# EAGLE library part TPIC1021 (library EVT-Eagle-Library)
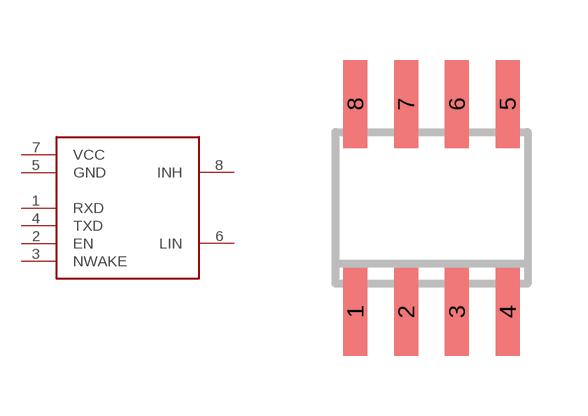
[diagram p5: symbol with the pads of SO08; footprint SO08]

Designator prefix -

## TPIC1021  [SO08]
1  RXD  out
2  EN  in
3  NWAKE  in
4  TXD
5  GND  pwr
6  LIN
7  VCC  pwr
8  INH  out

## Footprint SO08 (pad centres in mm)
Small Outline Package 8 NS Package M08A
smd 0.6 x 2.2: 1 -1.905,-2.6; 2 -0.635,-2.6; 3 0.635,-2.6; 4 1.905,-2.6; 5 1.905,2.6; 6 0.635,2.6; 7 -0.635,2.6; 8 -1.905,2.6